# Altium footprint library SOT95P290X160-5N.PcbLib: 1 footprints
Each footprint in its own frame and in the unit in brackets; x right, y up, seen from the top. Pads: shape width x height; smd on the part's side, far side on the other; paste and mask are expansions set on the pad; w line width, h text height; cw(c..) or ccw(c..) is an arc to the next point about the centre after c.
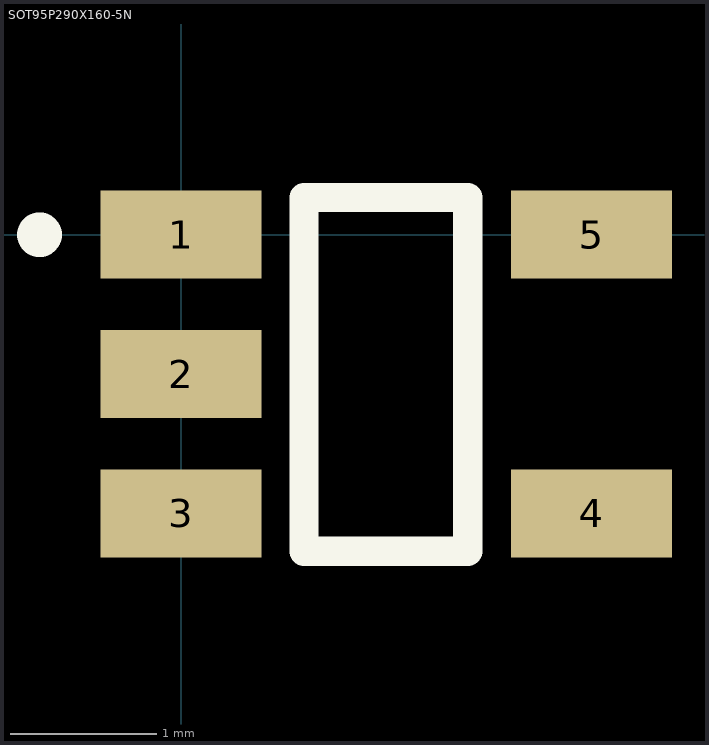
[diagram p0: the footprint, top view; thin cyan lines are the x and y axes]

## SOT95P290X160-5N [mm] "SOT + Pitch P + Nominal Lead Length X Height - #Pins"
height 1.6
pads (5):
  rect 1.1x0.6 smd: 1(0,0) 2(0,-0.95) 3(0,-1.9) 4(2.8,-1.9) 5(2.8,0)
Top Overlay:
  circle w0.254: c-0.965,0 r0.025
  lines w0.2: 0.838,-2.159 1.956,-2.159 1.956,0.254 1.727,0.254 1.092,0.254 0.838,0.254 0.838,-2.159
3D body "UJ_5.stp": height 0.99, standoff 0, extent 0,-2.388 2.794,0.508